# Altium schematic symbol library kkk.SchLib: 4 symbols
Pins are listed as number, name and electrical type; pins without a type are passive.

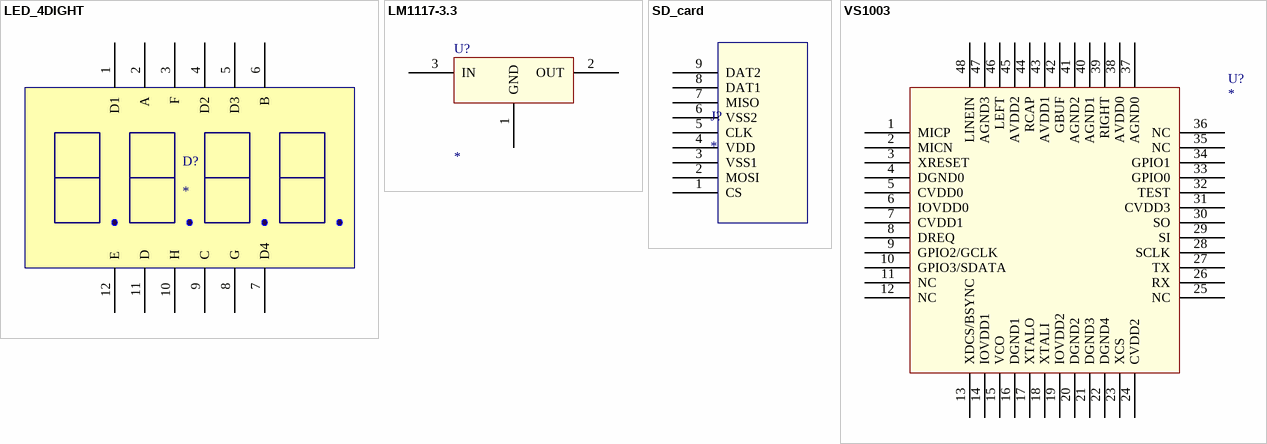
[diagram p0: symbols LED_4DIGHT to VS1003]

## LED_4DIGHT
designator D?
footprint LED_4DIGHT
pins: 1 D1 (power), 2 A (power), 3 F (power), 4 D2 (power), 5 D3 (power), 6 B (power), 7 D4 (power), 8 G (power), 9 C (power), 10 H (power), 11 D (power), 12 E (power)

## LM1117-3.3
designator U?
footprint SOT-223
pins: 1 GND, 2 OUT, 3 IN

## SD_card
designator J?
footprint SDCARD
pins: 1 CS (power), 2 MOSI (power), 3 VSS1 (power), 4 VDD (power), 5 CLK (power), 6 VSS2 (power), 7 MISO (power), 8 DAT1 (power), 9 DAT2 (power)

## VS1003
designator U?
footprint vs1003
pins: 1 MICP, 2 MICN, 3 XRESET, 4 DGND0, 5 CVDD0, 6 IOVDD0, 7 CVDD1, 8 DREQ, 9 GPIO2/GCLK, 10 GPIO3/SDATA, 11 NC, 12 NC, 13 XDCS/BSYNC, 14 IOVDD1, 15 VCO, 16 DGND1, 17 XTALO, 18 XTALI, 19 IOVDD2, 20 DGND2, 21 DGND3, 22 DGND4, 23 XCS, 24 CVDD2, 25 NC, 26 RX, 27 TX, 28 SCLK, 29 SI, 30 SO, 31 CVDD3, 32 TEST, 33 GPIO0, 34 GPIO1, 35 NC, 36 NC, 37 AGND0, 38 AVDD0, 39 RIGHT, 40 AGND1, 41 AGND2, 42 GBUF, 43 AVDD1, 44 RCAP, 45 AVDD2, 46 LEFT, 47 AGND3, 48 LINEIN